# EAGLE library part C12 (library con-ninigi-3.96)
NINIGI
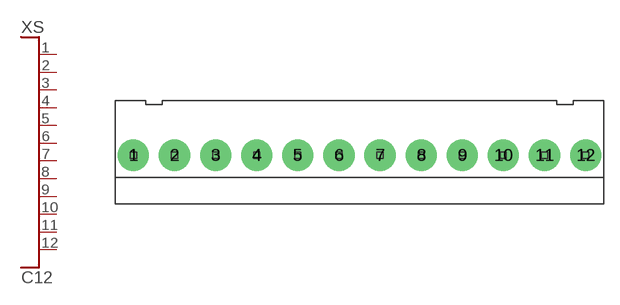
[diagram p6: symbol with the pads of NINIGI12C; footprint NINIGI12C]

Designator prefix XS

## C12  [NINIGI12C]
1  P$1
2  P$2
3  P$3
4  P$4
5  P$5
6  P$6
7  P$7
8  P$8
9  P$9
10  P$10
11  P$11
12  P$12

## Footprint NINIGI12C (pad centres in mm)
drill 1.6 pad 3: 1 -21.78,0; 2 -17.82,0; 3 -13.86,0; 4 -9.9,0; 5 -5.94,0; 6 -1.98,0; 7 1.98,0; 8 5.94,0; 9 9.9,0; 10 13.86,0; 11 17.82,0; 12 21.78,0